# Altium footprint library USB_HUB_VL813.PcbLib: 14 footprints
Each footprint in its own frame and in the unit in brackets; x right, y up, seen from the top. Pads: shape width x height; smd on the part's side, far side on the other; paste and mask are expansions set on the pad; w line width, h text height; cw(c..) or ccw(c..) is an arc to the next point about the centre after c.
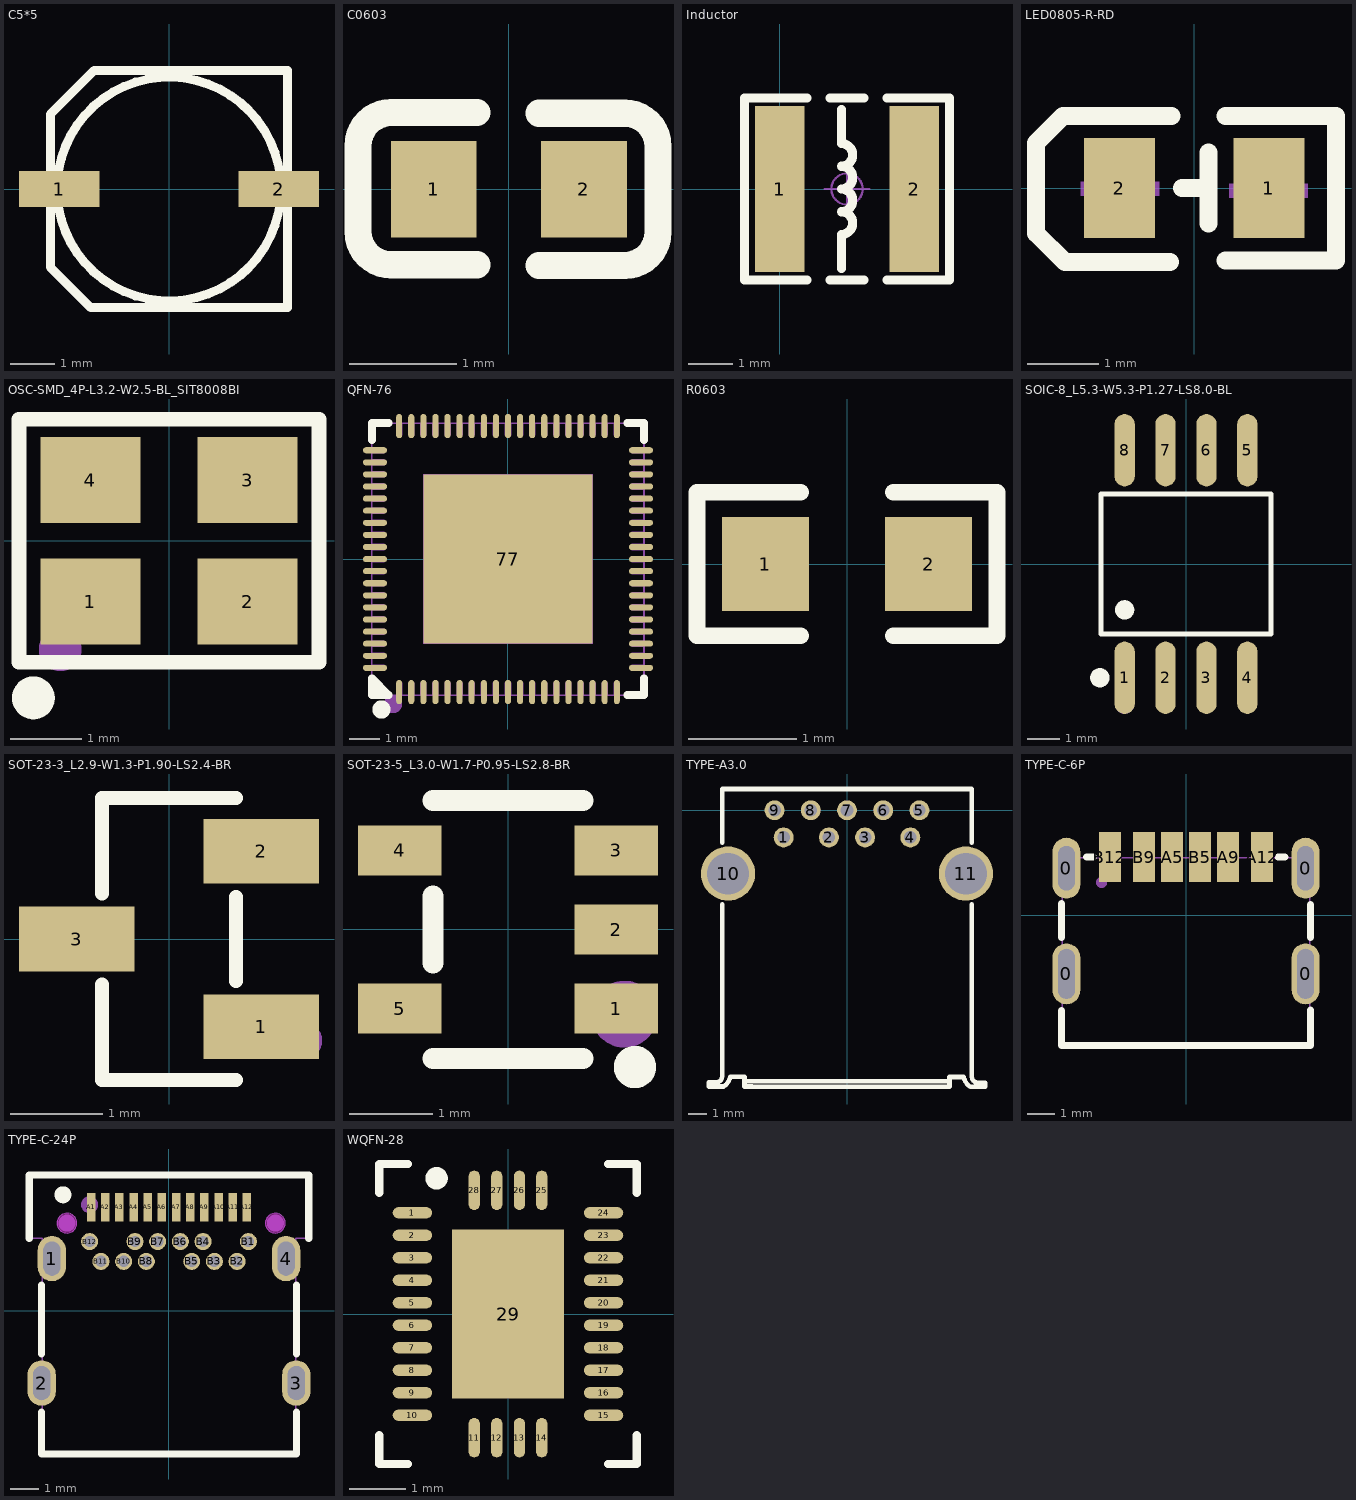
[diagram p0: the footprints below, top view; thin cyan lines are the x and y axes]

## C5*5 [mm]
pads (2):
  rect 1.8x0.8 smd: 1(-2.45,0) 2(2.45,0)
Top Overlay:
  circle w0.2: c0,0 r2.5
  lines w0.2: -2.65,-1.744 -2.65,1.668 -1.668,2.65 2.65,2.65 2.65,-2.65 -1.744,-2.65 -2.65,-1.744
3D body "SL-D.step": height 5.2, standoff 0, extent -2.8,-2.667 2.8,2.633

## C0603 [mm]
pads (2):
  rect 0.8x0.9 smd: 1(-0.7,0) 2(0.7,0)
Top Overlay:
  lines w0.254: -0.296,-0.704 -1.096,-0.704 cw(c-1.096,-0.394) -1.406,-0.394 -1.405,0.406 cw(c-1.096,0.406) -1.096,0.715 -0.296,0.715 ; 0.28,-0.71 1.08,-0.71 ccw(c1.08,-0.4) 1.39,-0.4 1.39,0.4 ccw(c1.08,0.4) 1.08,0.71 0.28,0.71
3D body "User Library-0603 SMD Capacitor.STEP": height 0.3, standoff 0, extent -0.8,-0.4 0.8,0.4

## Inductor [mm]
pads (2):
  rect 1.1x3.7 smd: 1(0,0) 2(3,0)
Top Overlay:
  lines w0.203: 0.611,-2.032 -0.786,-2.032 -0.786,2.032 0.611,2.032 ; 1.119,-2.032 1.881,-2.032 ; 1.119,2.032 1.881,2.032 ; 1.373,-1.778 1.373,-1.016 ccw(c1.373,-0.762) 1.373,-0.508 ccw(c1.373,-0.254) 1.373,0 ccw(c1.373,0.254) 1.373,0.508 ccw(c1.373,0.762) 1.373,1.016 1.373,1.778 ; 2.389,-2.032 3.786,-2.032 3.786,2.032 2.389,2.032
Mechanical 15:
  circle w0.05: c1.5,0 r0.35
  lines w0.05: 1,0 2,0 ; 1.5,-0.5 1.5,0.5
3D body "NR4020.STEP": height 2.1, standoff 0, extent -0.5,-2 3.5,2

## LED0805-R-RD [mm]
pads (2):
  rect 1x1.4 smd: 1(1.05,0) 2(-1.05,0)
Top Overlay:
  lines w0.254: -0.344,-1.043 -1.817,-1.043 -2.224,-0.636 -2.224,0.634 -1.843,1.015 -0.319,1.015 ; -0.169,0 0.1,0 ; 0.2,-0.5 0.2,0.5 ; 0.443,-1.017 1.993,-1.017 1.993,1.015 0.443,1.015
Mechanical 15:
  region: 0.941,-0.556 0.941,0.544 1.141,0.544 1.141,-0.556
  region: 0.494,0.06 1.594,0.06 1.594,-0.14 0.494,-0.14
  region: -0.494,-0.109 -1.594,-0.109 -1.594,0.091 -0.494,0.091
3D body "User Library-led_0805.STEP": height 1.1, standoff 0, extent -1.01,-0.625 1.01,0.625

## OSC-SMD_4P-L3.2-W2.5-BL_SIT8008BI [mm]
pads (4):
  rect 1.4x1.2 smd: 1(-1.1,-0.85) 2(1.1,-0.85) 3(1.1,0.85) 4(-1.1,0.85)
Top Overlay:
  lines w0.203: -2.1,-1.7 -2.1,1.7 2.1,1.7 2.1,-1.7 -2.1,-1.7
  lines w0.3: -1.9,-2.05 ccw(c-1.899,-2.2) -1.897,-2.05
Mechanical 15:
  circle w0.3: c-1.524,-1.524 r0.15
3D body "XTAL-3225.STEP": height 0.8, standoff 0, extent -1.549,-1.268 1.651,1.232

## QFN-76 [mm]
pads (77):
  oval 0.2x0.8 smd mask+0.051: 1(-3.6,-4.4) 2(-3.2,-4.4) 3(-2.8,-4.4) 4(-2.4,-4.4) 5(-2,-4.4) 6(-1.6,-4.4) 7(-1.2,-4.4) 8(-0.8,-4.4) 9(-0.4,-4.4) 10(0,-4.4) 11(0.4,-4.4) 12(0.8,-4.4) 13(1.2,-4.4) 14(1.6,-4.4) 15(2,-4.4) 16(2.4,-4.4) 17(2.8,-4.4) 18(3.2,-4.4) 19(3.6,-4.4) 39(3.6,4.399) 40(3.2,4.399) 41(2.8,4.399) 42(2.4,4.399) 43(2,4.399) 44(1.6,4.399) 45(1.2,4.399) 46(0.8,4.399) 47(0.4,4.399) 48(0,4.399) 49(-0.4,4.399) 50(-0.8,4.399) 51(-1.2,4.399) 52(-1.6,4.399) 53(-2,4.399) 54(-2.4,4.399) 55(-2.8,4.399) 56(-3.2,4.399) 57(-3.6,4.399)
  oval 0.8x0.2 smd mask+0.051: 20(4.4,-3.6) 21(4.4,-3.2) 22(4.4,-2.8) 23(4.4,-2.4) 24(4.4,-2) 25(4.4,-1.6) 26(4.4,-1.2) 27(4.4,-0.8) 28(4.4,-0.4) 29(4.4,0) 30(4.4,0.4) 31(4.4,0.8) 32(4.4,1.2) 33(4.4,1.6) 34(4.4,2) 35(4.4,2.4) 36(4.4,2.8) 37(4.4,3.2) 38(4.4,3.6) 58(-4.399,3.6) 59(-4.399,3.2) 60(-4.399,2.8) 61(-4.399,2.4) 62(-4.399,2) 63(-4.399,1.6) 64(-4.399,1.2) 65(-4.399,0.8) 66(-4.399,0.4) 67(-4.399,0) 68(-4.399,-0.4) 69(-4.399,-0.8) 70(-4.399,-1.2) 71(-4.399,-1.6) 72(-4.399,-2) 73(-4.399,-2.4) 74(-4.399,-2.8) 75(-4.399,-3.2) 76(-4.399,-3.6)
  rect 5.6x5.6 smd mask+0.051: 77(0,0)
Top Overlay:
  region: -3.94,-4.5 -4.5,-4.5 -4.5,-4.064
  lines w0.254: -4.5,3.94 -4.5,4.5 -3.94,4.5 ; 3.94,-4.5 4.5,-4.5 4.5,-3.94 ; 3.94,4.5 4.5,4.5 4.5,3.94 ; -4.5,-4.5 -3.94,-4.5 -4.5,-3.94 -4.5,-4.5
  lines w0.3: -4.191,-4.826 ccw(c-4.19,-4.976) -4.188,-4.826
Top Paste:
  drawing of 77 lines, arcs and shapes, not listed
Mechanical 6:
  circle w0.3: c-3.804,-4.8 r0.15
Mechanical 15:
  drawing of 82 lines, arcs and shapes, not listed
3D body "QFN76 v4.step": height 0.89, standoff 0, extent -4.401,-4.448 4.401,4.401

## R0603 [mm]
pads (2):
  rect 0.806x0.864 smd: 1(-0.753,0) 2(0.753,0)
Top Overlay:
  lines w0.152: -0.426,-0.661 -1.385,-0.661 -1.385,0.661 -0.426,0.661 ; 0.426,-0.661 1.385,-0.661 1.385,0.661 0.426,0.661
Top Paste:
  region: -0.355,0.4 -0.355,0.172 -0.735,0.172 -0.735,-0.158 -0.355,-0.158 -0.355,-0.4 -0.405,-0.45 -1.195,-0.45 -1.245,-0.4 -1.245,0.4 -1.195,0.45 -0.405,0.45
  region: 1.195,0.45 0.395,0.45 0.345,0.4 0.345,0.172 0.715,0.172 0.715,-0.158 0.345,-0.158 0.345,-0.4 0.395,-0.45 1.195,-0.45 1.245,-0.4 1.245,0.4
3D body "R0603.STEP": height 0.45, standoff 0, extent -0.8,-0.4 0.8,0.4

## SOIC-8_L5.3-W5.3-P1.27-LS8.0-BL [mm]
pads (8):
  oval 0.63x2.25 smd: 1(-1.905,-3.53) 2(-0.635,-3.53) 3(0.635,-3.53) 4(1.905,-3.53) 5(1.905,3.53) 6(0.635,3.53) 7(-0.635,3.53) 8(-1.905,3.53)
Top Overlay:
  circle w0.3: c-2.672,-3.53 r0.15
  circle w0.3: c-1.905,-1.424 r0.15
  lines w0.152: -2.639,-2.176 2.639,-2.176 2.639,2.176 -2.639,2.176 -2.639,-2.176
Mechanical 15:
  circle w0.3: c-1.905,-4.35 r0.15
3D body "SOIC8.STEP": height 2.3, standoff -0.02, extent -2.69,-4.247 2.69,4.146

## SOT-23-3_L2.9-W1.3-P1.90-LS2.4-BR [mm]
pads (3):
  rect 1.25x0.7 smd: 1(1,-0.95) 2(1,0.95) 3(-1,0)
Top Overlay:
  lines w0.152: -0.726,-0.495 -0.726,-1.526 0.726,-1.526 ; -0.726,0.495 -0.726,1.526 0.726,1.526 ; 0.726,-0.455 0.726,0.455
Mechanical 15:
  circle w0.2: c1.46,-1.1 r0.1
3D body "SOT-23-3.STEP": height 1.2, standoff 0, extent -1.451,-1.425 1.349,1.475

## SOT-23-5_L3.0-W1.7-P0.95-LS2.8-BR [mm]
pads (5):
  rect 1x0.6 smd: 1(1.3,-0.95) 2(1.3,0) 3(1.3,0.95) 4(-1.3,0.95) 5(-1.3,-0.95)
Top Overlay:
  circle w0.254: c1.524,-1.651 r0.127
  lines w0.254: -0.9,-1.55 0.9,-1.55 ; -0.9,-0.4 -0.9,0.4 ; -0.9,1.55 0.9,1.55
Mechanical 15:
  circle w0.4: c1.397,-1.016 r0.2
3D body "User Library-SOT23-5.STEP": height 1.09, standoff -0.01, extent -1.3,-1.45 1.501,1.449

## TYPE-A3.0 [mm]
pads (11):
  round 1.1 hole 0.7 mask+0.05: 1(-3.5,-1.5) 2(-1,-1.5) 3(1,-1.5) 4(3.5,-1.5) 5(4,0) 6(2,0) 7(0,0) 8(-2,0) 9(-4,0)
  round 3 hole 2.3 mask+0.05: 10(-6.57,-3.5) 11(6.57,-3.5)
Top Overlay:
  lines w0.254: -6.9,-5.199 -6.9,-14.732 cw(c-7.225,-14.706) -7.231,-15.032 -7.641,-15.032 -7.641,-15.262 -6.811,-15.262 ccw(c-7.227,-14.603) -6.458,-14.732 ; -6.9,-1.801 -6.9,1.172 6.9,1.172 6.9,-1.801 ; -6.458,-14.722 -5.661,-14.722 -5.661,-15.263 -5.241,-15.263 5.66,-15.281 5.66,-14.74 6.458,-14.74 ; -5.661,-14.972 5.66,-14.972 ; 6.458,-14.75 ccw(c7.226,-14.621) 6.811,-15.28 7.641,-15.28 7.641,-15.05 7.23,-15.05 cw(c7.225,-14.725) 6.9,-14.75 6.9,-5.199
3D body "USB A型 ?": height 6.8, standoff -4.31, extent -7.366,-14.391 7.318,-0.087

## TYPE-C-6P [mm]
pads (10):
  oval 1x2.2 hole 0.61 slot 1.8 at 90 deg mask+0.051: 0(-4.32,-2.11) 0(4.32,-2.11)
  oval 1x2.2 hole 0.61 slot 1.6 at 90 deg mask+0.051: 0(-4.32,1.71) 0(4.32,1.71)
  rect 0.8x1.8 smd mask+0.051: A5(-0.5,2.11) A9(1.52,2.11) A12(2.75,2.11) B5(0.5,2.11) B9(-1.52,2.11) B12(-2.75,2.11)
Top Overlay:
  lines w0.254: -4.5,-3.425 -4.5,-4.686 -4.496,-4.69 4.491,-4.69 4.5,-4.681 4.5,-3.421 ; -4.5,-0.798 -4.5,0.427 ; -3.587,2.11 -3.346,2.11 ; 3.326,2.11 3.576,2.11 ; 4.5,-0.793 4.5,0.391
Top Paste:
  region: -3.15,3.01 -2.35,3.01 -2.35,1.21 -3.15,1.21
  region: -1.92,3.01 -1.12,3.01 -1.12,1.21 -1.92,1.21
  region: -0.9,3.01 -0.1,3.01 -0.1,1.21 -0.9,1.21
  region: 0.1,3.01 0.9,3.01 0.9,1.21 0.1,1.21
  region: 1.12,3.01 1.92,3.01 1.92,1.21 1.12,1.21
  region: 2.35,3.01 3.15,3.01 3.15,1.21 2.35,1.21
  region: -3.82,1.11 -3.82,1.01 -3.896,0.827 -4.037,0.686 -4.221,0.61 -4.419,0.61 -4.603,0.686 -4.744,0.827 -4.82,1.01 -4.82,1.11 -4.82,2.31 -4.82,2.409 -4.744,2.593 -4.603,2.734 -4.419,2.81 -4.221,2.81 -4.037,2.734 -3.896,2.593 -3.82,2.409 -3.82,2.31
  region: -3.82,-2.69 -3.82,-2.79 -3.896,-2.973 -4.037,-3.114 -4.221,-3.19 -4.419,-3.19 -4.603,-3.114 -4.744,-2.973 -4.82,-2.79 -4.82,-2.69 -4.82,-1.49 -4.82,-1.391 -4.744,-1.207 -4.603,-1.066 -4.419,-0.99 -4.221,-0.99 -4.037,-1.066 -3.896,-1.207 -3.82,-1.391 -3.82,-1.49
  region: 4.82,-2.69 4.82,-2.79 4.744,-2.973 4.603,-3.114 4.419,-3.19 4.221,-3.19 4.037,-3.114 3.896,-2.973 3.82,-2.79 3.82,-2.69 3.82,-1.49 3.82,-1.391 3.896,-1.207 4.037,-1.066 4.221,-0.99 4.419,-0.99 4.603,-1.066 4.744,-1.207 4.82,-1.391 4.82,-1.49
  region: 4.82,1.11 4.82,1.01 4.744,0.827 4.603,0.686 4.419,0.61 4.221,0.61 4.037,0.686 3.896,0.827 3.82,1.01 3.82,1.11 3.82,2.31 3.82,2.409 3.896,2.593 4.037,2.734 4.221,2.81 4.419,2.81 4.603,2.734 4.744,2.593 4.82,2.409 4.82,2.31
Mechanical 6:
  circle w0.2: c-3.048,1.197 r0.1
Mechanical 15:
  region: -0.76,2.54 -0.24,2.54 -0.24,1.74 -0.76,1.74
  region: 0.24,2.54 0.76,2.54 0.76,1.74 0.24,1.74
  region: -1.8,2.54 -1.24,2.54 -1.24,1.74 -1.8,1.74
  region: 1.24,2.54 1.8,2.54 1.8,1.74 1.24,1.74
  region: -3.05,2.54 -2.45,2.54 -2.45,1.74 -3.05,1.74
  region: 2.45,2.54 3.05,2.54 3.05,1.74 2.45,1.74
  region: -4.17,2.09 -4.17,1.29 -4.47,1.29 -4.47,2.09
  region: -4.17,-1.71 -4.17,-2.51 -4.47,-2.51 -4.47,-1.71
  region: 4.47,-1.71 4.47,-2.51 4.17,-2.51 4.17,-1.71
  region: 4.47,2.09 4.47,1.29 4.17,1.29 4.17,2.09
  region: -4.41,2.541 -4.41,2.565 -4.445,2.601 -4.495,2.601 -4.53,2.565 -4.53,2.541 -4.53,2.516 -4.495,2.481 -4.445,2.481 -4.41,2.516
  lines w0.051: -4.47,-4.71 -4.47,2.09 4.47,2.09 4.47,-4.71 -4.47,-4.71
3D body "type-Cĸ?": height 3.35, standoff -0.9, extent -4.681,-5.185 4.569,3.915

## TYPE-C-24P [mm]
pads (28):
  oval 1x1.6 hole 0.6 slot 1.2 at 90 deg mask+0.051: 1(-4.12,1.84) 2(-4.48,-2.55) 3(4.5,-2.55) 4(4.14,1.84)
  rect 0.3x1.01 smd mask+0.051: A1(-2.74,3.65) A2(-2.24,3.65) A3(-1.74,3.65) A4(-1.24,3.65) A5(-0.74,3.65) A6(-0.24,3.65) A7(0.26,3.65) A8(0.76,3.65) A9(1.26,3.65) A10(1.76,3.65) A11(2.26,3.65) A12(2.76,3.65)
  round 0.6 hole 0.4 mask+0.051: B1(2.81,2.44) B2(2.41,1.74) B3(1.611,1.74) B4(1.21,2.44) B5(0.81,1.74) B6(0.41,2.44) B7(-0.39,2.44) B8(-0.79,1.74) B9(-1.19,2.44) B10(-1.59,1.74) B11(-2.39,1.74) B12(-2.79,2.44)
Top Overlay:
  circle w0.3: c-3.73,4.09 r0.15
  lines w0.254: -4.92,2.55 -4.92,4.79 4.94,4.79 4.94,2.55 ; -4.49,-3.581 -4.49,-5.05 4.51,-5.05 4.51,-3.581 ; -4.49,-1.519 -4.49,0.91 ; 4.51,-1.519 4.51,0.91
Top Paste:
  drawing of 28 lines, arcs and shapes, not listed
Keep-Out Layer:
  board cut-out: -3.24,3.09 -3.24,3.16 -3.293,3.288 -3.392,3.387 -3.52,3.44 -3.66,3.44 -3.788,3.387 -3.887,3.288 -3.94,3.16 -3.94,3.09 -3.94,3.02 -3.887,2.892 -3.788,2.793 -3.66,2.74 -3.52,2.74 -3.392,2.793 -3.293,2.892 -3.24,3.02
  board cut-out: 4.11,3.09 4.11,3.16 4.057,3.288 3.958,3.387 3.83,3.44 3.69,3.44 3.562,3.387 3.463,3.288 3.41,3.16 3.41,3.09 3.41,3.02 3.463,2.892 3.562,2.793 3.69,2.74 3.83,2.74 3.958,2.793 4.057,2.892 4.11,3.02
Mechanical 1:
  circle w0.005: c-3.59,3.09 r0.35
  circle w0.005: c3.76,3.09 r0.35
Mechanical 6:
  circle w0.3: c-3.59,3.09 r0.15
  circle w0.3: c3.76,3.09 r0.15
  circle w0.3: c-2.79,3.74 r0.15
Mechanical 15:
  drawing of 37 lines, arcs and shapes, not listed
3D body "type-Cĸ?": height 3.35, standoff -0.9, extent -4.625,-4.704 4.625,4.396

## WQFN-28 [mm]
pads (29):
  oval 0.7x0.2 smd: 1(-1.7,1.8) 2(-1.7,1.4) 3(-1.7,1) 4(-1.7,0.6) 5(-1.7,0.2) 6(-1.7,-0.2) 7(-1.7,-0.6) 8(-1.7,-1) 9(-1.7,-1.4) 10(-1.7,-1.8) 15(1.7,-1.8) 16(1.7,-1.4) 17(1.7,-1) 18(1.7,-0.6) 19(1.7,-0.2) 20(1.7,0.2) 21(1.7,0.6) 22(1.7,1) 23(1.7,1.4) 24(1.7,1.8)
  oval 0.2x0.7 smd: 11(-0.6,-2.2) 12(-0.2,-2.2) 13(0.203,-2.2) 14(0.6,-2.2) 25(0.6,2.2) 26(0.203,2.2) 27(-0.2,2.2) 28(-0.6,2.2)
  rect 2x3 smd: 29(0,0)
Top Overlay:
  circle w0.2: c-1.27,2.413 r0.1
  lines w0.15: -2.286,-2.159 -2.286,-2.667 -1.778,-2.667 ; -2.286,2.159 -2.286,2.667 -1.778,2.667 ; 1.778,-2.667 2.286,-2.667 2.286,-2.159 ; 1.778,2.667 2.286,2.667 2.286,2.159
3D body "WQFN-28 v5.step": height 0.9, standoff 0, extent -2.198,-2.594 2.206,2.608